# Altium schematic symbol library SCH - CONNECTORS - SIM CARD HOLDER.SCHLIB: 1 symbol
Pins are listed as number, name and electrical type; pins without a type are passive.

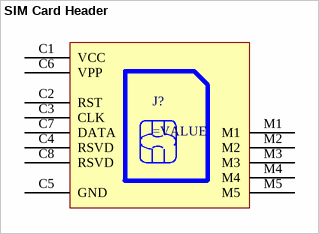
[diagram p0: symbol SIM Card Header]

## SIM Card Header
designator J?
pins: C1 VCC, C2 RST, C3 CLK, C4 RSVD, C5 GND, C6 VPP, C7 DATA, C8 RSVD, M1, M2, M3, M4, M5